# Altium footprint library clockPCBLib.PcbLib: 1 footprints
Each footprint in its own frame and in the unit in brackets; x right, y up, seen from the top. Pads: shape width x height; smd on the part's side, far side on the other; paste and mask are expansions set on the pad; w line width, h text height; cw(c..) or ccw(c..) is an arc to the next point about the centre after c.
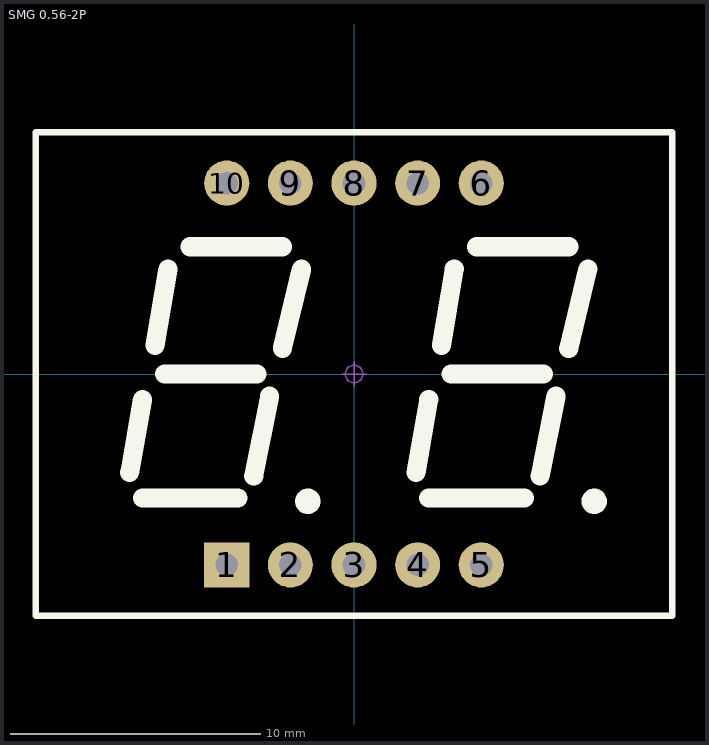
[diagram p0: the footprint, top view; thin cyan lines are the x and y axes]

## SMG 0.56-2P [mm] "25*19*8mm(长宽厚)"
pads (10):
  rect 1.8x1.8 hole 0.9: 1(-5.08,-7.62)
  round 1.8 hole 0.9: 2(-2.54,-7.62) 3(0,-7.62) 4(2.54,-7.62) 5(5.08,-7.62) 6(5.08,7.62) 7(2.54,7.62) 8(0,7.62) 9(-2.54,7.62) 10(-5.08,7.62)
Top Overlay:
  circle w0.508: c-1.841,-5.08 r0.254
  circle w0.508: c9.588,-5.08 r0.254
  lines w0.254: -12.7,-9.652 -12.7,9.652 12.7,9.652 12.7,-9.652 -12.7,-9.652
  lines w0.762: -8.954,-3.937 -8.445,-1.016 ; -8.445,-4.953 -4.635,-4.953 ; -7.938,1.143 -7.429,4.191 ; -7.556,0 -3.873,0 ; -6.54,5.08 -2.857,5.08 ; -4,-4.064 -3.365,-0.889 ; -2.857,1.016 -2.095,4.191 ; 2.476,-3.937 2.984,-1.016 ; 2.984,-4.953 6.794,-4.953 ; 3.492,1.143 4,4.191 ; 3.873,0 7.556,0 ; 4.889,5.08 8.572,5.08 ; 7.429,-4.064 8.064,-0.889 ; 8.572,1.016 9.335,4.191
Mechanical 15:
  circle w0.05: c0,0 r0.35
  lines w0.05: -0.5,0 0.5,0 ; 0,-0.5 0,0.5
3D body "SMG 0.56-2P.STEP": height 8, standoff -3.6, extent -12.5,-9.5 12.5,9.5